# EAGLE library part ANDDEAR_4PORT2 (library ali_modules)
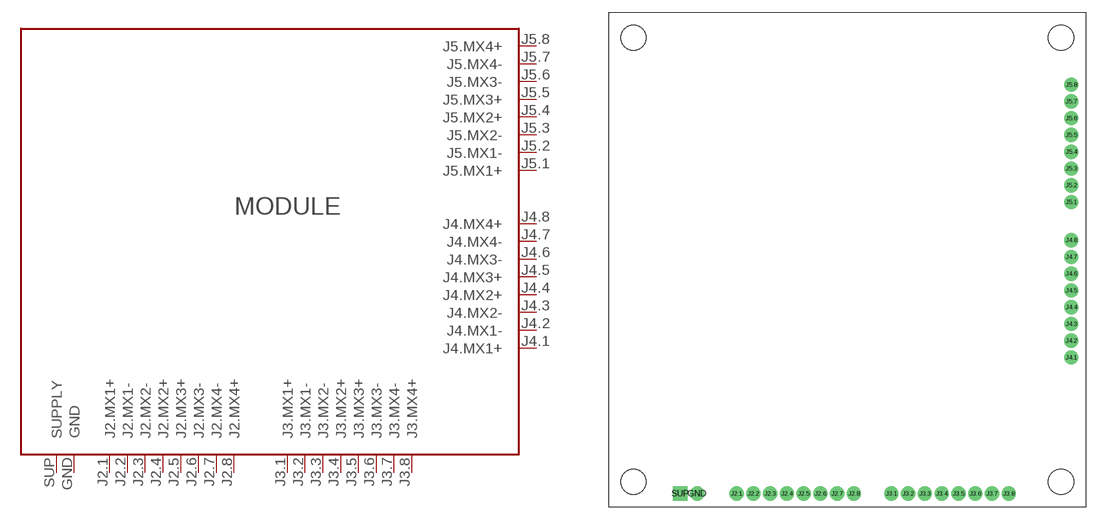
[diagram p18: symbol with the pads of ANDDEAR_4PORT2; footprint ANDDEAR_4PORT2]

Designator prefix MODULE

## ANDDEAR_4PORT2 (MANF: ANDDEAR; MANF#: 4 port 2)  [ANDDEAR_4PORT2]
GND  GND
J2.1  J2.MX1+
J2.2  J2.MX1-
J2.3  J2.MX2-
J2.4  J2.MX2+
J2.5  J2.MX3+
J2.6  J2.MX3-
J2.7  J2.MX4-
J2.8  J2.MX4+
J3.1  J3.MX1+
J3.2  J3.MX1-
J3.3  J3.MX2-
J3.4  J3.MX2+
J3.5  J3.MX3+
J3.6  J3.MX3-
J3.7  J3.MX4-
J3.8  J3.MX4+
J4.1  J4.MX1+
J4.2  J4.MX1-
J4.3  J4.MX2-
J4.4  J4.MX2+
J4.5  J4.MX3+
J4.6  J4.MX3-
J4.7  J4.MX4-
J4.8  J4.MX4+
J5.1  J5.MX1+
J5.2  J5.MX1-
J5.3  J5.MX2-
J5.4  J5.MX2+
J5.5  J5.MX3+
J5.6  J5.MX3-
J5.7  J5.MX4-
J5.8  J5.MX4+
SUP  SUPPLY

## Footprint ANDDEAR_4PORT2 (pad centres in mm)
drill 1 pad 1.7: GND -17.91,-27.91; J2.1 -13.2,-27.91; J2.2 -11.2,-27.91; J2.3 -9.2,-27.91; J2.4 -7.2,-27.91; J2.5 -5.2,-27.91; J2.6 -3.2,-27.91; J2.7 -1.2,-27.91; J2.8 0.8,-27.91; J3.1 5.27,-27.91; J3.2 7.27,-27.91; J3.3 9.27,-27.91; J3.4 11.27,-27.91; J3.5 13.27,-27.91; J3.6 15.27,-27.91; J3.7 17.27,-27.91; J3.8 19.27,-27.91; J4.1 26.73,-11.66; J4.2 26.73,-9.66; J4.3 26.73,-7.66; J4.4 26.73,-5.66; J4.5 26.73,-3.66; J4.6 26.73,-1.66; J4.7 26.73,0.34; J4.8 26.73,2.34; J5.1 26.73,6.89; J5.2 26.73,8.89; J5.3 26.73,10.89; J5.4 26.73,12.89; J5.5 26.73,14.89; J5.6 26.73,16.89; J5.7 26.73,18.89; J5.8 26.73,20.89
drill 1 pad 1.7 square: SUP -19.91,-27.91
hole 3 at 25.5,-26.5
hole 3 at -25.5,-26.5
hole 3 at 25.5,26.5
hole 3 at -25.5,26.5